# EAGLE library part 74LVC1G3157 (library project121)
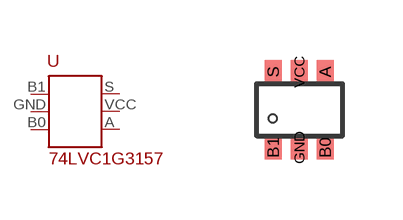
[diagram p2: symbol with the pads of 74LVC1G3157; footprint 74LVC1G3157]

Designator prefix U

## 74LVC1G3157  [74LVC1G3157]
A  A
B0  B0
B1  B1
GND  GND  pwr
S  S
VCC  VCC  pwr

## Footprint 74LVC1G3157 (pad centres in mm)
smd 0.42 x 0.6: A 1.3,1.9; B0 1.3,0; B1 0,0; GND 0.65,0; S 0,1.9; VCC 0.65,1.9